# Altium footprint library Components - 30.03.22 - 09.35.PcbLib: 1 footprints
Each footprint in its own frame and in the unit in brackets; x right, y up, seen from the top. Pads: shape width x height; smd on the part's side, far side on the other; paste and mask are expansions set on the pad; w line width, h text height; cw(c..) or ccw(c..) is an arc to the next point about the centre after c.
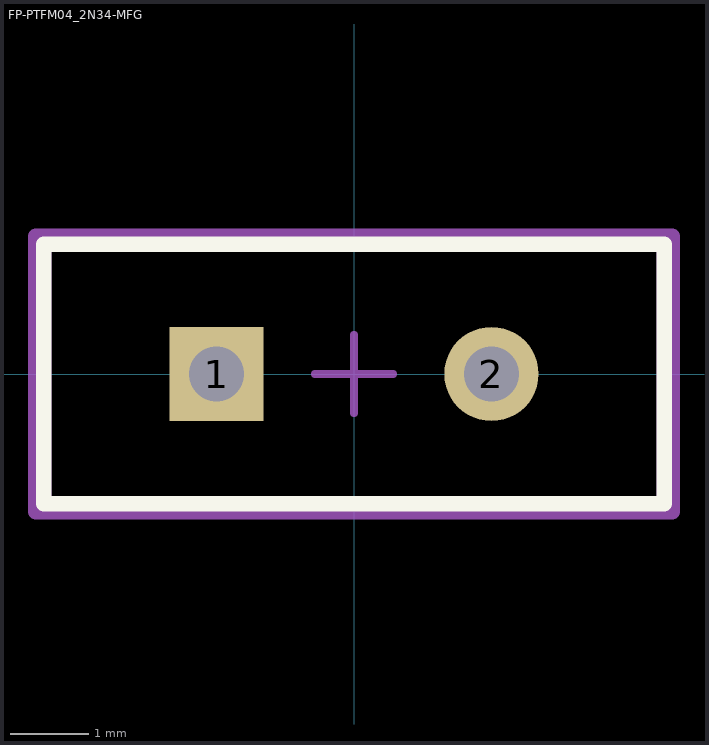
[diagram p0: the footprint, top view; thin cyan lines are the x and y axes]

## FP-PTFM04_2N34-MFG [mm]
pads (2):
  rect 1.2x1.2 hole 0.7 paste-1000 mask+0: 1(-1.75,0)
  round 1.2 hole 0.7 paste-1000 mask+0: 2(1.75,0)
Top Overlay:
  lines w0.2: -3.95,-1.65 -3.95,1.65 3.95,1.65 3.95,-1.65 -3.95,-1.65
Top Assembly:
  lines w0.2: -4.05,-1.75 -4.05,1.75 4.05,1.75 4.05,-1.75 -4.05,-1.75
  text ".Designator" at 0,-0.001 h1
Top 3D Body:
  lines w0.2: -3.95,-1.65 -3.95,1.65 3.95,1.65 3.95,-1.65 -3.95,-1.65
Top Courtyard:
  lines w0.2: -4.05,-1.75 -4.05,1.75 4.05,1.75 4.05,-1.75 -4.05,-1.75
Top Component Center:
  lines w0.1: -0.5,0 0.5,0 ; 0,-0.5 0,0.5
3D body "Res_Murata_Electronics_North_America_PTFM04BB222Q2N34B0_eec.STEP": height 0.25, standoff 0, extent -4.05,-1.75 4.05,1.75